# Altium footprint library UQQ-12_8-Q12PB-C.PcbLib: 1 footprints
Each footprint in its own frame and in the unit in brackets; x right, y up, seen from the top. Pads: shape width x height; smd on the part's side, far side on the other; paste and mask are expansions set on the pad; w line width, h text height; cw(c..) or ccw(c..) is an arc to the next point about the centre after c.
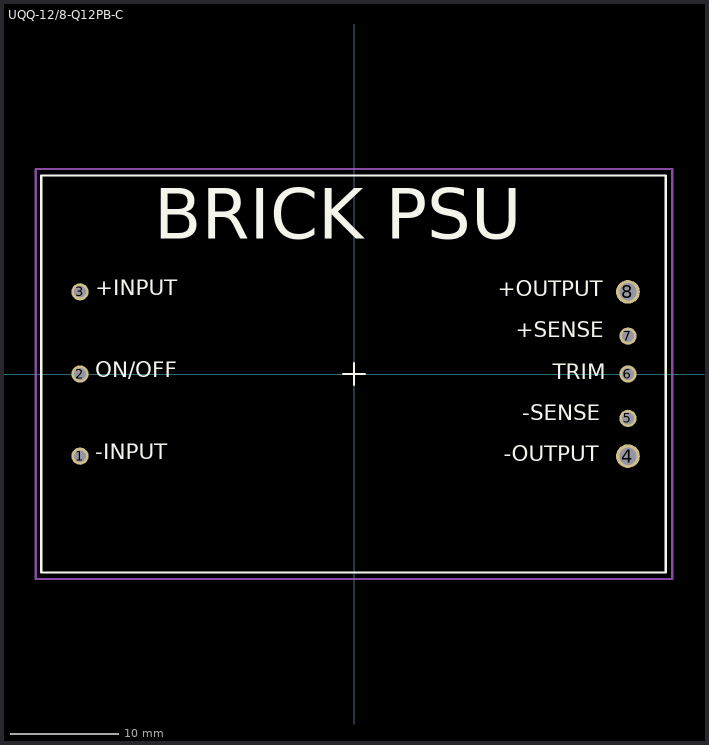
[diagram p0: the footprint, top view; thin cyan lines are the x and y axes]

## UQQ-12/8-Q12PB-C [mm] "MURATA POWER SOLUTIONS - UQQ-12/8-Q12PB-C - CONVERTER, DC/DC, 8A 12-12V Q-BRICK"
height 5
pads (8):
  round 1.6 hole 1.1: 1(-25.4,-7.62) 2(-25.4,0) 3(-25.4,7.62) 5(25.4,-4.11) 6(25.4,0) 7(25.4,3.51)
  round 2.2 hole 1.6: 4(25.4,-7.62) 8(25.4,7.62)
Top Overlay:
  lines w0.2: -1,0 1,0 ; 0,-1 0,1 ; -29,-18.4 28.9,-18.4 28.9,18.4 -29,18.4 -29,-18.4
  text "BRICK PSU" at -18.5,11 h8
  text "+INPUT" at -24,6.8 h2.5
  text "-INPUT" at -24,-8.4 h2.5
  text "ON/OFF" at -24,-0.8 h2.5
  text "+OUTPUT" at 13.305,6.7 h2.5
  text "-OUTPUT" at 13.9,-8.6 h2.5
  text "+SENSE" at 14.983,2.875 h2.5
  text "-SENSE" at 15.578,-4.775 h2.5
  text "TRIM" at 18.417,-0.98 h2.5
Mechanical 15:
  lines w0.2: -29.5,-19 29.5,-19 29.5,19 -29.5,19 -29.5,-19
3D body: height 12.7, standoff -4.76, extent -28.2,-18.4 28.2,18.4